# Altium schematic symbol library pke.SchLib: 7 symbols
Pins are listed as number, name and electrical type; pins without a type are passive.

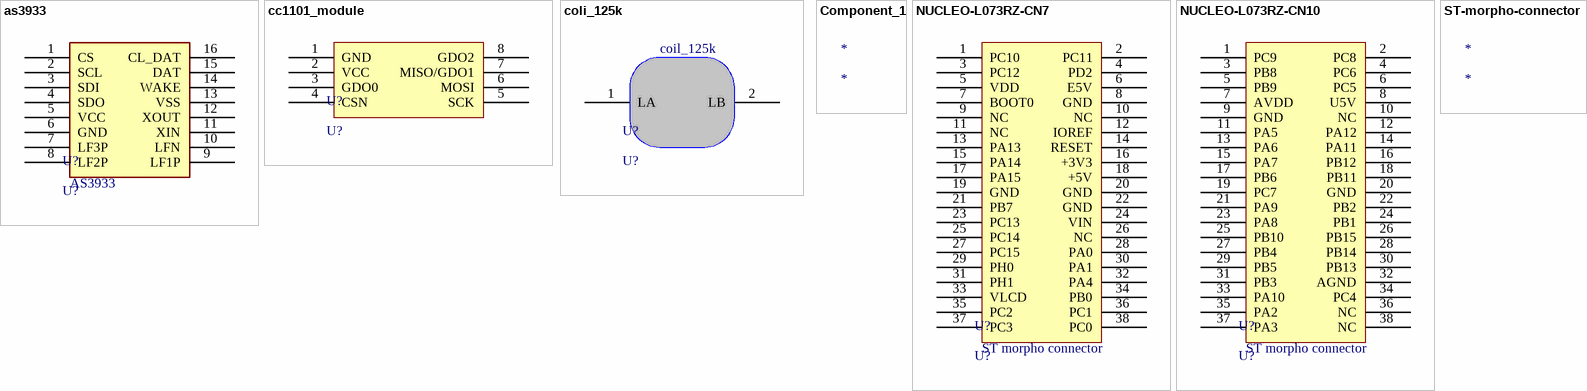
[diagram p0: symbols as3933 to ST-morpho-connector]

## as3933
designator U?, comment U?
footprint TSSOP16
pins: 1 CS, 2 SCL, 3 SDI, 4 SDO, 5 VCC, 6 GND, 7 LF3P, 8 LF2P, 9 LF1P, 10 LFN, 11 XIN, 12 XOUT, 13 VSS, 14 WAKE, 15 DAT, 16 CL_DAT
text: AS3933

## cc1101_module
designator U?, comment U?
footprint HDR2X4 (Connector; Header; 4x2 Position)
pins: 1 GND, 2 VCC, 3 GDO0, 4 CSN, 5 SCK, 6 MOSI, 7 MISO/GDO1, 8 GDO2

## coli_125k
designator U?, comment U?
footprint coil_125k
footprint coil_125k_xy
pins: 1 LA, 2 LB
text: coil_125k

## Component_1
designator *

## NUCLEO-L073RZ-CN7
designator U?, comment U?
footprint HDR2X19
pins: 1 PC10, 2 PC11, 3 PC12, 4 PD2, 5 VDD, 6 E5V, 7 BOOT0, 8 GND, 9 NC, 10 NC, 11 NC, 12 IOREF, 13 PA13, 14 RESET, 15 PA14, 16 +3V3, 17 PA15, 18 +5V, 19 GND, 20 GND, 21 PB7, 22 GND, 23 PC13, 24 VIN, 25 PC14, 26 NC, 27 PC15, 28 PA0, 29 PH0, 30 PA1, 31 PH1, 32 PA4, 33 VLCD, 34 PB0, 35 PC2, 36 PC1, 37 PC3, 38 PC0
text: ST morpho connector

## NUCLEO-L073RZ-CN10
designator U?, comment U?
footprint HDR2X19
pins: 1 PC9, 2 PC8, 3 PB8, 4 PC6, 5 PB9, 6 PC5, 7 AVDD, 8 U5V, 9 GND, 10 NC, 11 PA5, 12 PA12, 13 PA6, 14 PA11, 15 PA7, 16 PB12, 17 PB6, 18 PB11, 19 PC7, 20 GND, 21 PA9, 22 PB2, 23 PA8, 24 PB1, 25 PB10, 26 PB15, 27 PB4, 28 PB14, 29 PB5, 30 PB13, 31 PB3, 32 AGND, 33 PA10, 34 PC4, 35 PA2, 36 NC, 37 PA3, 38 NC
text: ST morpho connector

## ST-morpho-connector
designator *